# EAGLE library part TDA1904 (library Audio-Power-amplifier)
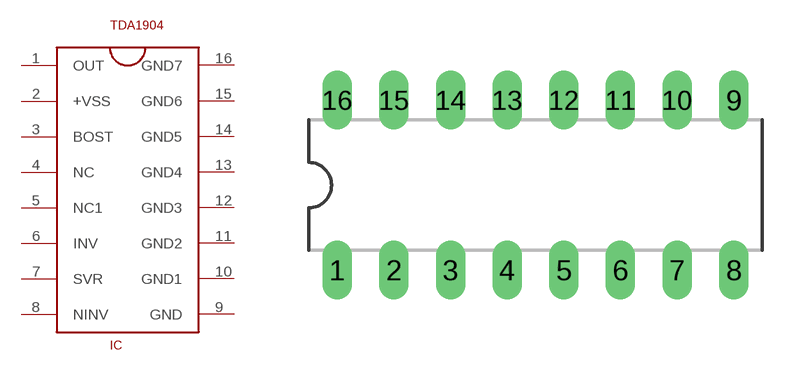
[diagram p24: symbol with the pads of SOT38-1; footprint SOT38-1]

Designator prefix IC

## TDA1904  [SOT38-1]
1  OUT  out
2  +VSS  pwr
3  BOST
4  NC  nc
5  NC1  nc
6  INV  in
7  SVR  in
8  NINV  in
9  GND  pwr
10  GND1  pwr
11  GND2  pwr
12  GND3  pwr
13  GND4  pwr
14  GND5  pwr
15  GND6  pwr
16  GND7  pwr

## Footprint SOT38-1 (pad centres in mm)
Dual In Line Package
drill 0.813 long: 1 -8.89,-3.81; 2 -6.35,-3.81; 3 -3.81,-3.81; 4 -1.27,-3.81; 5 1.27,-3.81; 6 3.81,-3.81; 7 6.35,-3.81; 8 8.89,-3.81; 9 8.89,3.81; 10 6.35,3.81; 11 3.81,3.81; 12 1.27,3.81; 13 -1.27,3.81; 14 -3.81,3.81; 15 -6.35,3.81; 16 -8.89,3.81